# Altium footprint library SN74HC245NSR.PcbLib: 1 footprints
Each footprint in its own frame and in the unit in brackets; x right, y up, seen from the top. Pads: shape width x height; smd on the part's side, far side on the other; paste and mask are expansions set on the pad; w line width, h text height; cw(c..) or ccw(c..) is an arc to the next point about the centre after c.
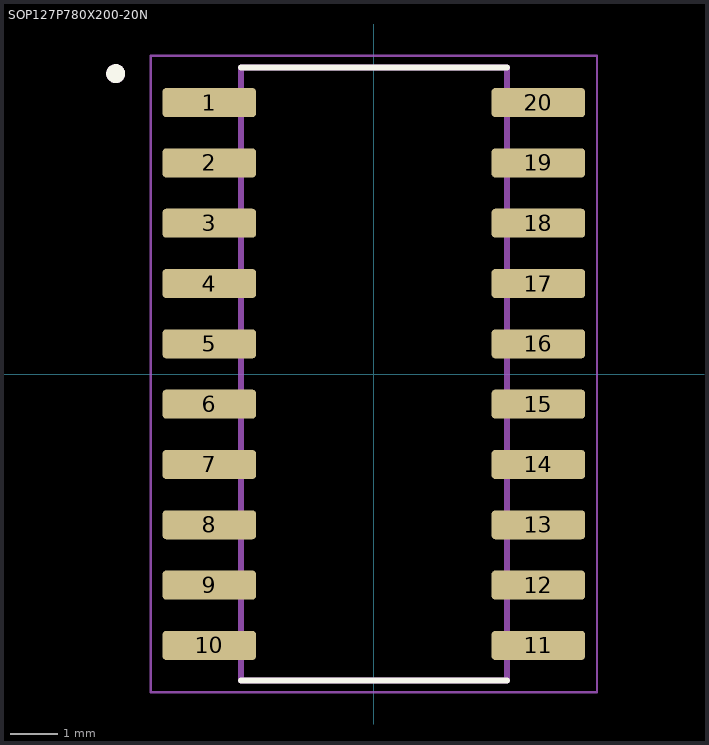
[diagram p0: the footprint, top view; thin cyan lines are the x and y axes]

## SOP127P780X200-20N [mm]
pads (20):
  rrect25% 1.97x0.61 smd: 1(-3.465,5.715) 2(-3.465,4.445) 3(-3.465,3.175) 4(-3.465,1.905) 5(-3.465,0.635) 6(-3.465,-0.635) 7(-3.465,-1.905) 8(-3.465,-3.175) 9(-3.465,-4.445) 10(-3.465,-5.715) 11(3.465,-5.715) 12(3.465,-4.445) 13(3.465,-3.175) 14(3.465,-1.905) 15(3.465,-0.635) 16(3.465,0.635) 17(3.465,1.905) 18(3.465,3.175) 19(3.465,4.445) 20(3.465,5.715)
Top Overlay:
  circle w0.2: c-5.435,6.325 r0.1
  lines w0.127: -2.8,-6.45 2.8,-6.45 ; -2.8,6.45 2.8,6.45
Mechanical 13:
  circle w0.2: c-5.435,6.325 r0.1
  lines w0.127: -2.8,-6.45 -2.8,6.45 2.8,6.45 2.8,-6.45 -2.8,-6.45
Mechanical 15:
  lines w0.05: -4.7,-6.7 -4.7,6.7 4.7,6.7 4.7,-6.7 -4.7,-6.7